# Altium footprint library 野火_F429_F767_H743挑战者_底板_V2_0_PCB封装库_AD格式.PcbLib: 66 footprints (part 4 of 5)
Each footprint in its own frame and in the unit in brackets; x right, y up, seen from the top. Pads: shape width x height; smd on the part's side, far side on the other; paste and mask are expansions set on the pad; w line width, h text height; cw(c..) or ccw(c..) is an arc to the next point about the centre after c.
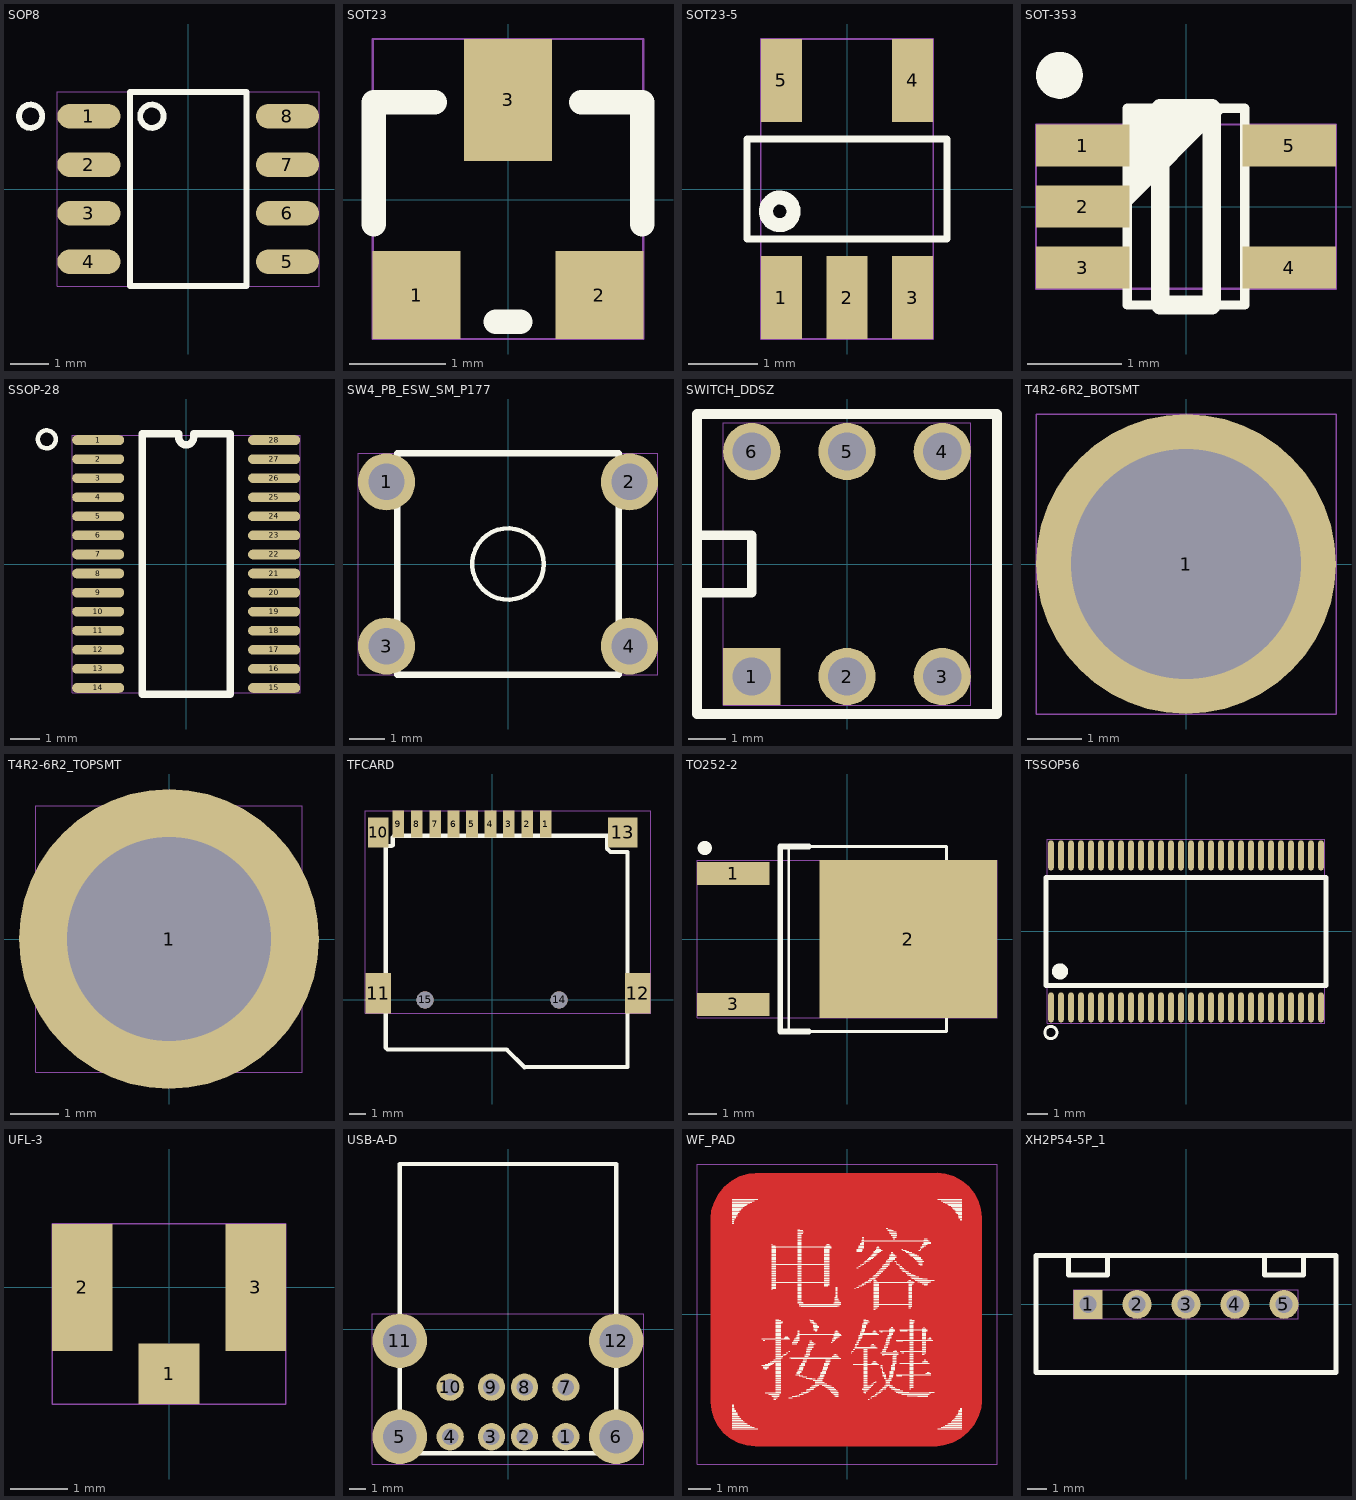
[diagram p3: the footprints below, top view; thin cyan lines are the x and y axes]

## SOP8 [mil]
pads (8):
  oval 65x25 smd mask+1.97: 1(-102.36,75) 2(-102.36,25) 3(-102.36,-25) 4(-102.36,-75) 5(102.36,-75) 6(102.36,-25) 7(102.36,25) 8(102.36,75)
Top Overlay:
  circle w6: c-162.36,75 r12
  circle w6: c-37.36,75 r12
  lines w6: -60,-100 60,-100 60,100 -60,100 -60,-100
Top Assembly:
  text "U8" at -40.23,-25 h50
Mechanical 20:
  lines w1: -134.86,-100 -134.86,100 134.86,100 134.86,-100 -134.86,-100

## SOT23 [mil]
pads (3):
  rect 36x36 smd mask+1.97: 1(-37.5,-39) 2(37.5,-39)
  rect 36x50 smd mask+1.97: 3(0,41)
Top Overlay:
  lines w10: -55,-10 -55,40 -30,40 ; -5,-50 5,-50 ; 30,40 55,40 55,-10
Top Assembly:
  text "Q2" at 41.54,27.38 h50
Mechanical 20:
  lines w1: -55.5,-57 55.5,-57 55.5,66 -55.5,66 -55.5,-57

## SOT23-5 [mil]
pads (5):
  rect 23.62x47.24 smd mask+1.97: 1(-37.4,-62.01) 2(0,-62.01) 3(37.4,-62.01) 4(37.4,62.01) 5(-37.4,62.01)
Top Overlay:
  circle w8: c-38.4,-12.79 r7.87
  lines w4: -57.09,-28.54 57.09,-28.54 57.09,18.7 57.09,28.54 -57.09,28.54 -57.09,18.7 -57.09,-28.54
Top Assembly:
  text "U2" at 40.23,25 h50
Mechanical 20:
  lines w1: -49.21,-85.63 49.21,-85.63 49.21,85.63 -49.21,85.63 -49.21,-85.63

## SOT-353 [mm]
pads (5):
  rect 1x0.45 smd mask+0.05: 1(-1.1,0.65) 2(-1.1,0) 3(-1.1,-0.65) 4(1.1,-0.65) 5(1.1,0.65)
Top Overlay:
  circle w0.25: c-1.35,1.4 r0.125
  lines w0.1: -0.625,0.05 0.375,1.05 ; -0.625,0.15 0.275,1.05 ; -0.625,0.25 0.175,1.05 ; -0.625,0.35 0.075,1.05 ; -0.625,0.45 -0.025,1.05 ; -0.625,0.55 -0.125,1.05 ; -0.625,0.65 -0.225,1.05 ; -0.625,0.75 -0.325,1.05 ; -0.625,0.85 -0.425,1.05 ; -0.625,0.95 -0.525,1.05 ; -0.625,-1.05 0.625,-1.05 0.625,1.05 -0.625,1.05 -0.625,-1.05
  lines w0.2: -0.275,-1.05 0.275,-1.05 0.275,1.05 -0.275,1.05 -0.275,-1.05
Top Assembly:
  text "U18" at -1.488,-0.635 h1.27
Mechanical 20:
  lines w0.025: -1.6,-0.875 1.6,-0.875 1.6,0.875 -1.6,0.875 -1.6,-0.875

## SSOP-28 [mil]
pads (28):
  oval 70x13 smd mask+2.5: 1(-118.11,166.4) 2(-118.11,140.8) 3(-118.11,115.2) 4(-118.11,89.6) 5(-118.11,64) 6(-118.11,38.4) 7(-118.11,12.8) 8(-118.11,-12.8) 9(-118.11,-38.4) 10(-118.11,-64) 11(-118.11,-89.6) 12(-118.11,-115.2) 13(-118.11,-140.8) 14(-118.11,-166.4) 15(118.11,-166.4) 16(118.11,-140.8) 17(118.11,-115.2) 18(118.11,-89.6) 19(118.11,-64) 20(118.11,-38.4) 21(118.11,-12.8) 22(118.11,12.8) 23(118.11,38.4) 24(118.11,64) 25(118.11,89.6) 26(118.11,115.2) 27(118.11,140.8) 28(118.11,166.4)
Top Overlay:
  circle w5.98: c-187.13,167.39 r12.02
  lines w10: -59.06,-175 59.06,-175 59.06,175 10,175 10,170 cw(c0,170) -10,170 -10,175 -59.06,175 -59.06,-175
Top Assembly:
  text "U12" at 58.56,25 h50
Mechanical 20:
  lines w1: -153.11,-172.9 153.11,-172.9 153.11,172.9 -153.11,172.9 -153.11,-172.9

## SW4_PB_ESW_SM_P177 [mil]
pads (4):
  round 63 hole 40 mask+2.5: 1(-133.86,90.55) 2(133.86,90.55) 3(-133.86,-90.55) 4(133.86,-90.55)
Top Overlay:
  circle w5: c0,0 r39.37
  lines w7: -122.05,-122.05 -122.05,122.05 122.05,122.05 122.05,-122.05 -122.05,-122.05
Top Assembly:
  text "SW3" at -67.73,-25 h50
Mechanical 20:
  lines w1: -165.35,-122.05 165.35,-122.05 165.35,122.05 -165.35,122.05 -165.35,-122.05

## SWITCH_DDSZ [mil]
pads (6):
  rect 60x60 / inner round 60 / far side rect 60x60 hole 40 mask+2.5: 1(-100,-118.11)
  round 60 hole 40 mask+2.5: 2(0,-118.11) 3(100,-118.11) 4(100,118.11) 5(0,118.11) 6(-100,118.11)
Top Overlay:
  lines w10: -157.48,-30 -100,-30 -100,30 -157.48,30 ; -157.48,-157.48 157.48,-157.48 157.48,157.48 -157.48,157.48 -157.48,-157.48
Top Assembly:
  text "U1" at -29.52,-25 h50
Mechanical 20:
  lines w1: -130,-148.11 130,-148.11 130,148.11 -130,148.11 -130,-148.11

## T4R2-6R2_BOTSMT [mil]
pads (1):
  round 216.54 / inner round 216.54 / far side round 244.09 hole 166.14 mask+1.97: 1(0,0)
Top Assembly:
  text "H9" at -39.04,-25 h50
Mechanical 20:
  lines w1: -108.27,-108.27 108.27,-108.27 108.27,108.27 -108.27,108.27 -108.27,-108.27

## T4R2-6R2_TOPSMT [mil]
pads (1):
  round 244.09 / inner round 216.54 / far side round 216.54 hole 166.14 mask+1.97: 1(0,0)
Top Assembly:
  text "H8" at -40.23,-25 h50
Mechanical 20:
  lines w1: -108.27,-108.27 108.27,-108.27 108.27,108.27 -108.27,108.27 -108.27,-108.27

## TFCARD [mil]
pads (15):
  rect 27.56x62.99 smd mask+1.97: 1(125.98,413.39) 2(82.67,413.39) 3(39.37,413.39) 4(-3.94,413.39) 5(-47.25,413.39) 6(-90.55,413.39) 7(-133.86,413.39) 8(-177.17,413.39) 9(-220.48,413.39)
  rect 47.24x70 smd mask+1.97: 10(-267.72,393.7)
  rect 60x95 smd mask+1.97: 11(-267.72,15.75) 12(342.52,15.75)
  rect 70x70 smd mask+1.97: 13(307.08,393.7)
  round 40 hole 40 unplated mask+2.5: 14(157.48,0) 15(-157.48,0)
Top Overlay:
  lines w10: -251.72,361.75 -235.72,361.75 -233.72,363.75 -233.72,381.75 -229.72,385.75 270.28,385.75 270.28,355.75 278.28,347.75 318.28,347.75 318.28,-157.48 76.28,-158.25 34.28,-116.25 -245.72,-116.25 -249.72,-112.25 -249.72,359.75 -251.72,361.75
Top Assembly:
  text "J28" at -57.25,-25 h50
Mechanical 20:
  lines w1: -297.72,-31.75 372.52,-31.75 372.52,444.88 -297.72,444.88 -297.72,-31.75

## TO252-2 [mil]
pads (3):
  rect 100.39x31.5 smd mask+1.97: 1(-157.48,90.55) 3(-157.48,-90.55)
  rect 246.06x218.5 smd mask+1.97: 2(84.65,0)
Top Overlay:
  circle w9.84: c-196.85,125.98 r4.92
  lines w3.94: 137.8,-105.04 155.35,-105.04 190.94,-65.59 190.94,65.59 155.35,105.04 137.8,105.04 ; -80.71,-127.95 137.8,-127.95 137.8,127.95 -80.71,127.95 -80.71,-127.95
  lines w7.87: -53.15,-127.95 -92.52,-127.95 -92.52,127.95 -53.15,127.95
Top Assembly:
  text "U3" at -40.23,-25 h50
Mechanical 20:
  lines w1: -207.68,-109.25 207.68,-109.25 207.68,109.25 -207.68,109.25 -207.68,-109.25

## TSSOP56 [mil]
pads (56):
  oval 11.02x59.06 smd mask+2: 1(-265.75,-149.61) 2(-246.06,-149.61) 3(-226.38,-149.61) 4(-206.69,-149.61) 5(-187.01,-149.61) 6(-167.32,-149.61) 7(-147.64,-149.61) 8(-127.95,-149.61) 9(-108.27,-149.61) 10(-88.58,-149.61) 11(-68.9,-149.61) 12(-49.21,-149.61) 13(-29.53,-149.61) 14(-9.84,-149.61) 15(9.84,-149.61) 16(29.53,-149.61) 17(49.21,-149.61) 18(68.9,-149.61) 19(88.58,-149.61) 20(108.27,-149.61) 21(127.95,-149.61) 22(147.64,-149.61) 23(167.32,-149.61) 24(187.01,-149.61) 25(206.69,-149.61) 26(226.38,-149.61) 27(246.06,-149.61) 28(265.75,-149.61) 29(265.75,149.61) 30(246.06,149.61) 31(226.38,149.61) 32(206.69,149.61) 33(187.01,149.61) 34(167.32,149.61) 35(147.64,149.61) 36(127.95,149.61) 37(108.27,149.61) 38(88.58,149.61) 39(68.9,149.61) 40(49.21,149.61) 41(29.53,149.61) 42(9.84,149.61) 43(-9.84,149.61) 44(-29.53,149.61) 45(-49.21,149.61) 46(-68.9,149.61) 47(-88.58,149.61) 48(-108.27,149.61) 49(-127.95,149.61) 50(-147.64,149.61) 51(-167.32,149.61) 52(-187.01,149.61) 53(-206.69,149.61) 54(-226.38,149.61) 55(-246.06,149.61) 56(-265.75,149.61)
Top Overlay:
  circle w5.98: c-266.02,-199.01 r12.02
  circle w15.75: c-248.03,-78.74 r7.87
  lines w10: -275.59,-106.3 275.59,-106.3 275.59,106.3 -275.59,106.3 -275.59,-106.3
Top Assembly:
  text "U11" at -47.85,-25 h50
Mechanical 20:
  lines w1: -273.26,-181.13 273.26,-181.13 273.26,181.13 -273.26,181.13 -273.26,-181.13

## UFL-3 [mil]
pads (3):
  rect 41.34x41.34 smd mask+1.97: 1(0,-59.06)
  rect 41.34x86.61 smd mask+1.97: 2(-59.06,0) 3(59.06,0)
Top Assembly:
  text "CN9" at 63.92,25 h50
Mechanical 20:
  lines w1: -79.72,-79.72 79.72,-79.72 79.72,43.31 -79.72,43.31 -79.72,-79.72

## USB-A-D [mil]
pads (12):
  round 65 hole 39.37 mask+2.5: 1(137.8,-255.91) 2(39.37,-255.91) 3(-39.37,-255.91) 4(-137.8,-255.91) 7(137.8,-137.8) 8(39.37,-137.8) 9(-39.37,-137.8) 10(-137.8,-137.8)
  round 129.92 hole 78.74 mask+2: 5(-257.87,-255.91) 6(257.87,-255.91) 11(-257.87,-27.56) 12(257.87,-27.56)
Top Overlay:
  lines w10: -257.87,-295.28 257.87,-295.28 257.87,393.7 -257.87,393.7 -257.87,-295.28
Top Assembly:
  text "J39" at 56.06,25 h50
Mechanical 20:
  lines w1: -322.83,-320.87 322.83,-320.87 322.83,37.4 -322.83,37.4 -322.83,-320.87

## WF_PAD [mil]
Top Layer:
  region: -241.25,170.89 -240.1,182.59 -235.33,198.34 -227.57,212.85 -217.13,225.57 -204.41,236.01 -189.9,243.77 -174.15,248.54 -162.45,249.69 -162.44,249.62 159.77,249.89 174.19,248.47 189.27,243.9 203.17,236.47 215.35,226.47 225.35,214.29 232.78,200.39 237.35,185.31 238.77,170.89 238.5,170.88 238.54,-155.19 237.47,-166.03 232.63,-181.99 224.76,-196.7 214.18,-209.6 201.28,-220.18 186.57,-228.05 170.61,-232.89 159.77,-233.96 159.76,-233.92 -162.37,-234.28 -177.6,-232.78 -192.51,-228.25 -206.25,-220.91 -218.29,-211.03 -228.17,-198.99 -235.51,-185.25 -240.04,-170.34 -241.52,-155.25 -241.18,-155.18 -241.18,170.88
Top Overlay:
  drawing of 867 lines, arcs and shapes, not listed
Top Assembly:
  text "TPAD1" at -94.98,-25 h50
Mechanical 20:
  lines w1: -265.75,-265.75 265.75,-265.75 265.75,265.75 -265.75,265.75 -265.75,-265.75

## XH2P54-5P_1 [mil]
pads (5):
  rect 59.06x59.06 / inner round 59.06 / far side rect 59.06x59.06 hole 35.43 mask+1.97: 1(-200,0)
  round 59.06 hole 35.43 mask+1.97: 2(-100,0) 3(0,0) 4(100,0) 5(200,0)
Top Overlay:
  lines w10: -306.3,-139.37 306.3,-139.37 306.3,100 -306.3,100 -306.3,-139.37 ; -240,60 -160,60 -160,100 -240,100 -240,60 ; 160,60 240,60 240,100 160,100 160,60
Top Assembly:
  text "J2" at 35,25 h50
Mechanical 20:
  lines w1: -229.53,-29.53 229.53,-29.53 229.53,29.53 -229.53,29.53 -229.53,-29.53